# EAGLE library part RELAY_BOARD_4CH (library Elecrow_Relay)
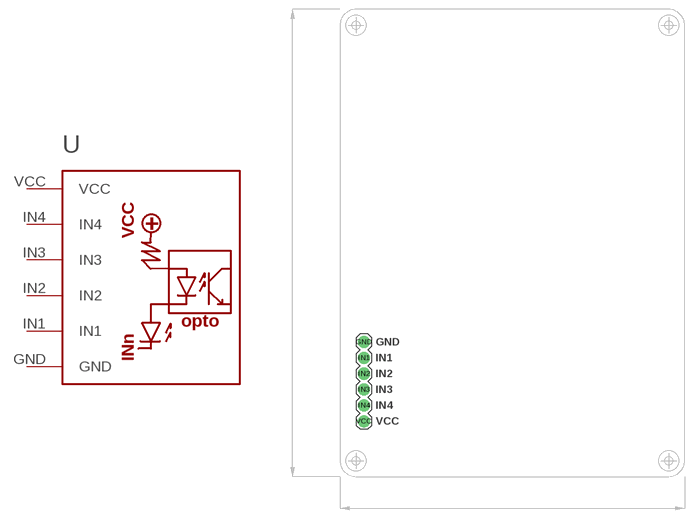
[diagram p0: symbol with the pads of RELAY_BOARD_4CH; footprint RELAY_BOARD_4CH]

Designator prefix -

## RELAY_BOARD_4CHOPTO  [RELAY_BOARD_4CH]
GND  GND  pwr
IN1  IN1
IN2  IN2
IN3  IN3
IN4  IN4
VCC  VCC  pwr

## Footprint RELAY_BOARD_4CH (pad centres in mm)
drill 1 pad 1.93: GND 3.81,21.59; IN1 3.81,19.05; IN2 3.81,16.51; IN3 3.81,13.97; IN4 3.81,11.43; VCC 3.81,8.89